# Altium schematic symbol library AP3047A1.SchLib: 1 symbol
Pins are listed as number, name and electrical type; pins without a type are passive.

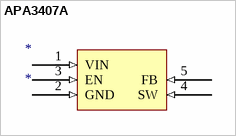
[diagram p0: symbol APA3407A]

## APA3407A
designator *
footprint SOT95P245X145-5N (SOT23, 5-Leads, Body 2.96x2.45mm, Pitch 0.95mm, IPC Medium Density)
pins: 1 VIN (in), 2 GND (in), 3 EN (in), 4 SW (in), 5 FB (in)